# EAGLE library part FYT-3031A (library led-seg)
8.00 mm (0.30") three digit numeric display with common cathode. Datasheet <http://www.foryard-led.ru/pdf/fyt-3031ax_bx.pdf>.
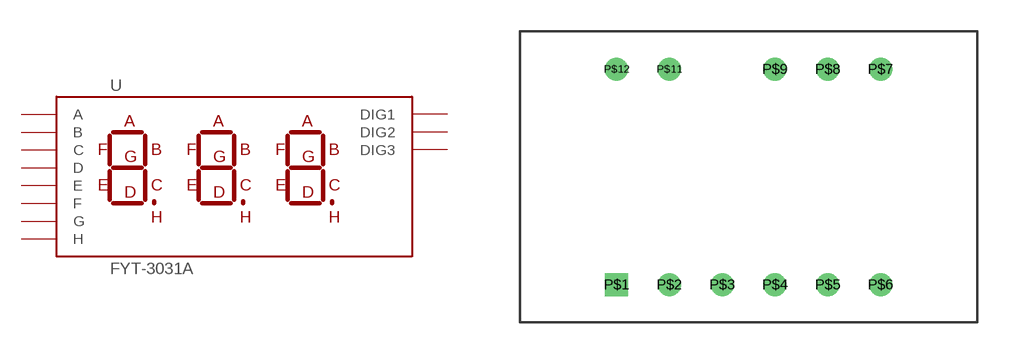
[diagram p15: symbol with the pads of FYT-3031; footprint FYT-3031]

Designator prefix -

## FYT-3031A  [FYT-3031]
P$1  DIG1  out
P$2  DIG2  out
P$3  DIG3  out
P$4  E  in
P$5  D  in
P$6  C  in
P$7  B  in
P$8  A  in
P$9  H  in
P$11  F  in
P$12  G  in

## Footprint FYT-3031 (pad centres in mm)
drill 0.6 square: P$1 -6.35,-5.18
drill 0.6: P$2 -3.81,-5.18; P$3 -1.27,-5.18; P$4 1.27,-5.18; P$5 3.81,-5.18; P$6 6.35,-5.18; P$7 6.35,5.18; P$8 3.81,5.18; P$9 1.27,5.18; P$11 -3.81,5.18; P$12 -6.35,5.18